# Altium schematic symbol library Interface_IC.SchLib: 2 symbols
Pins are listed as number, name and electrical type; pins without a type are passive.

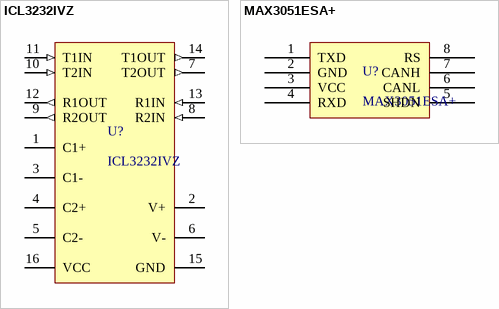
[diagram p0: symbols ICL3232IVZ to MAX3051ESA+]

## ICL3232IVZ
designator U?
RS-232 Interface IC RS232 3V 2D/2R IND; Manufacturer: Intersil; Data Rate: 500 kb/s; Function: Transceiver; Number of Drivers: 2 Driver; Number of Receivers: 2 Receiver; Operating Supply Current: 1 mA; Operating Supply Voltage: 3.3 V, 5 V; Receiver Signal Type: Single-Ended; Supply Voltage - Max: 5.5 V; Supplier 1: Mouser; Supplier Part Number 1: 968-ICL3232IVZ; Manufacturer Part Number: ICL3232IVZ; RoHS: RoHS Compliant; Category: RS-232 Interface IC; Stock 1: 2546; Pricing 1: 1=1.42, 10=1.21, 100=0.969, 500=0.849, 1000=0.702, 2500=0.652, 5000=0.628, 10000=0.610 (EUR); Package/Case: TSSOP-16; Packaging: Tube; Product: RS-232 Transceivers; Series: ICL3232; Brand: Intersil; Mounting Style: SMD/SMT; Maximum Operating Temperature: + 85 C; Minimum Operating Temperature: - 40 C; Protocol Supported: RS-232; Standard Pack Qty: 96; Supply Voltage - Min: 3 V; RoHS - Mouser: Y; Minimum Order Quantity: 1; Reeling: False; ComponentLink1URL: http://www.mouser.com/ds/2/465/icl3221-22-23-32-41-43-555317.pdf; ComponentLink1Description: http://www.mouser.com/ds/2/465/icl3221-22-23-32-41-43-555317.pdf
footprint TSSOP16_L (TSOP, 16-Leads, Body 5,00x4,40mm, Pitch 0,65mm, IPC Low Density)
footprint TSSOP16_M (TSOP, 16-Leads, Body 5,00x4,40mm, Pitch 0,65mm, IPC Medium Density)
footprint TSSOP16_H (TSOP, 16-Leads, Body 5,00x4,40mm, Pitch 0,65mm, IPC High Density)
pins: 1 C1+, 2 V+ (power), 3 C1-, 4 C2+, 5 C2-, 6 V- (power), 7 T2OUT (out), 8 R2IN (in), 9 R2OUT (out), 10 T2IN (in), 11 T1IN (in), 12 R1OUT (out), 13 R1IN (in), 14 T1OUT (out), 15 GND (power), 16 VCC (power)

## MAX3051ESA+
designator U?
CAN Interface IC 3.3V 1Mbps Transceiver; Manufacturer: Maxim Integrated; Operating Supply Current: 35 mA; Supply Voltage - Max: 3.465 V; Supply Voltage - Min: 3.135 V; Supplier 1: Mouser; Supplier Part Number 1: 700-MAX3051ESA; Manufacturer Part Number: MAX3051ESA+; RoHS: RoHS Compliant; Category: CAN Interface IC; Stock 1: 1199; Pricing 1: 1=1.65, 10=1.56, 25=1.46, 50=1.42 (EUR); Package/Case: SOIC-8; Packaging: Tube; Product: CAN Transceivers; Series: MAX3051; Type: CAN Transceiver; Brand: Maxim Integrated; Mounting Style: SMD/SMT; Maximum Operating Temperature: + 85 C; Minimum Operating Temperature: - 40 C; Operating Supply Voltage: 3.3 V; Standard Pack Qty: 100; RoHS - Mouser: Y; Minimum Order Quantity: 1; Reeling: False; ComponentLink1URL: http://www.mouser.com/ds/2/256/MAX3051-74908.pdf; ComponentLink1Description: http://www.mouser.com/ds/2/256/MAX3051-74908.pdf
footprint SOIC8_L (SOIC 8-leads IPC Low density)
footprint SOIC8_M (SOIC 8-leads IPC Medium density)
footprint SOIC8_H (SOIC 8-leads IPC High density)
pins: 1 TXD, 2 GND, 3 VCC, 4 RXD, 5 SHDN, 6 CANL, 7 CANH, 8 RS